# Altium schematic symbol library Power.SchLib: 2 symbols
Pins are listed as number, name and electrical type; pins without a type are passive.

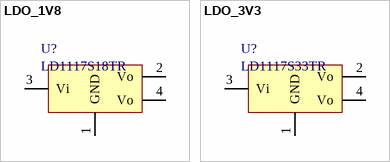
[diagram p0: symbols LDO_1V8 to LDO_3V3]

## LDO_1V8
designator U?, comment LD1117S18TR
Fixed 1V8 output LDO LD1117S18TR; Supplier 1: Digi-Key; Supplier Part Number 1: 497-7308-1-ND
footprint SOT-223
pins: 1 GND (power), 2 Vo (power), 3 Vi (power), 4 Vo (power)

## LDO_3V3
designator U?, comment LD1117S33TR
Fixed 3V3 output LDO LD1117S33TR; Supplier 1: Digi-Key; Supplier Part Number 1: 497-1242-1-ND
footprint SOT-223
pins: 1 GND, 2 Vo, 3 Vi, 4 Vo